# Altium schematic symbol library RJ12_Femelle_FCI.SchLib: 1 symbol
Pins are listed as number, name and electrical type; pins without a type are passive.

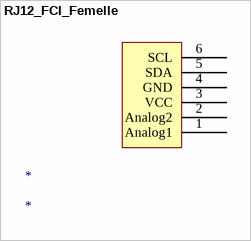
[diagram p0: symbol RJ12_FCI_Femelle]

## RJ12_FCI_Femelle
designator *
footprint RJ12_Femelle_FCI
pins: 1 Analog1, 2 Analog2, 3 VCC, 4 GND, 5 SDA, 6 SCL